# Altium footprint library lib_raspberry.PcbLib: 3 footprints
Each footprint in its own frame and in the unit in brackets; x right, y up, seen from the top. Pads: shape width x height; smd on the part's side, far side on the other; paste and mask are expansions set on the pad; w line width, h text height; cw(c..) or ccw(c..) is an arc to the next point about the centre after c.
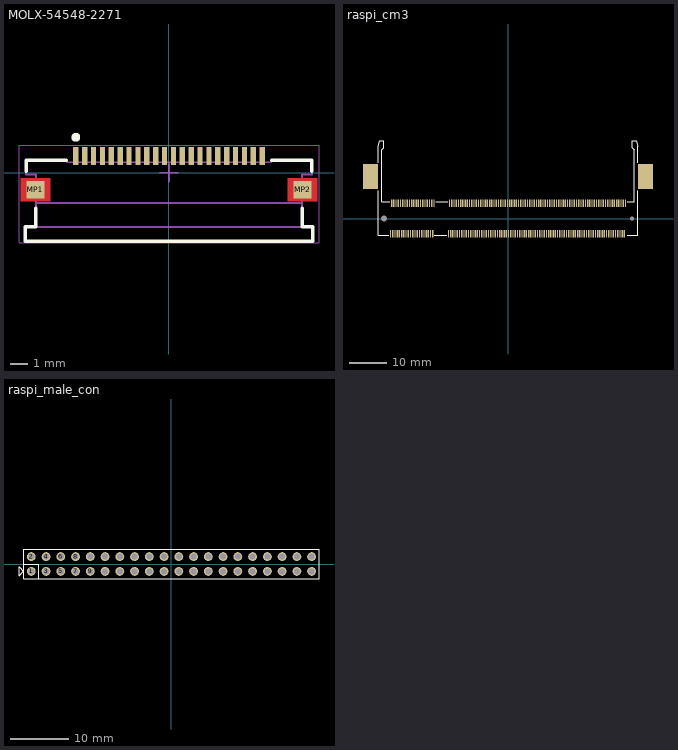
[diagram p0: the footprints below, top view; thin cyan lines are the x and y axes]

## MOLX-54548-2271 [mm] "FPC Connector, 22-Leads, Right Angle, Pitch 0.5 mm, Mated Height 1.2 mm, SMT"
height 1.212
pads (24):
  rect 0.3x1 smd: 1(-5.25,0.95) 2(-4.75,0.95) 3(-4.25,0.95) 4(-3.75,0.95) 5(-3.25,0.95) 6(-2.75,0.95) 7(-2.25,0.95) 8(-1.75,0.95) 9(-1.25,0.95) 10(-0.75,0.95) 11(-0.25,0.95) 12(0.25,0.95) 13(0.75,0.95) 14(1.25,0.95) 15(1.75,0.95) 16(2.25,0.95) 17(2.75,0.95) 18(3.25,0.95) 19(3.75,0.95) 20(4.25,0.95) 21(4.75,0.95) 22(5.25,0.95)
  rect 1x1 smd: MP1(-7.525,-0.95) MP2(7.525,-0.95)
Top Layer:
  region: 8.35,-0.3 6.7,-0.3 6.7,-1.6 8.35,-1.6
  region: -8.35,-0.3 -6.7,-0.3 -6.7,-1.6 -8.35,-1.6
Top Overlay:
  circle w0.25: c-5.25,2 r0.125
  lines w0.2: -8.05,0.1 -8.05,0.7 -5.8,0.7 ; -7.5,-2 -7.5,-3.05 -8.1,-3.05 -8.1,-3.849 8.1,-3.849 8.1,-3.05 7.5,-3.05 7.5,-2 ; 5.8,0.7 8.05,0.7 8.05,0.1
Mechanical 13:
  lines w0.1: -7.5,-1.7 7.5,-1.7 ; -7.5,-3.05 -7.5,-0.1 -8.05,-0.1 -8.05,0.7 -5.75,0.7 -5.75,0.6 5.75,0.6 5.75,0.7 8.05,0.7 8.05,-0.1 7.5,-0.1 7.5,-3.05 ; -7.5,-3.05 -8.1,-3.05 -8.1,-3.849 8.1,-3.849 8.1,-3.05 7.5,-3.05 ; -7.5,-3.05 7.5,-3.05
Mechanical 15:
  lines w0.05: -8.45,-3.949 8.45,-3.949 8.45,1.55 -8.45,1.55 -8.45,-3.949
  lines w0.1: -0.5,0 0.5,0 ; 0,-0.5 0,0.5
3D body "545482271.stp": height 1.21, standoff 0.01, extent -8.1,-3.849 8.1,1.151

## raspi_cm3 [mm]
pads (204):
  rect 0.35x2 smd: 1(-31.65,-4.1) 2(-31.35,4.1) 3(-31.05,-4.1) 4(-30.75,4.1) 5(-30.45,-4.1) 6(-30.15,4.1) 7(-29.85,-4.1) 8(-29.55,4.1) 9(-29.25,-4.1) 10(-28.95,4.1) 11(-28.65,-4.1) 12(-28.35,4.1) 13(-28.05,-4.1) 14(-27.75,4.1) 15(-27.45,-4.1) 16(-27.15,4.1) 17(-26.85,-4.1) 18(-26.55,4.1) 19(-26.25,-4.1) 20(-25.95,4.1) 21(-25.65,-4.1) 22(-25.35,4.1) 23(-25.05,-4.1) 24(-24.75,4.1) 25(-24.45,-4.1) 26(-24.15,4.1) 27(-23.85,-4.1) 28(-23.55,4.1) 29(-23.25,-4.1) 30(-22.95,4.1) 31(-22.65,-4.1) 32(-22.35,4.1) 33(-22.05,-4.1) 34(-21.75,4.1) 35(-21.45,-4.1) 36(-21.15,4.1) 37(-20.85,-4.1) 38(-20.55,4.1) 39(-20.25,-4.1) 40(-19.95,4.1) 41(-16.05,-4.1) 42(-15.75,4.1) 43(-15.45,-4.1) 44(-15.15,4.1) 45(-14.85,-4.1) 46(-14.55,4.1) 47(-14.25,-4.1) 48(-13.95,4.1) 49(-13.65,-4.1) 50(-13.35,4.1) 51(-13.05,-4.1) 52(-12.75,4.1) 53(-12.45,-4.1) 54(-12.15,4.1) 55(-11.85,-4.1) 56(-11.55,4.1) 57(-11.25,-4.1) 58(-10.95,4.1) 59(-10.65,-4.1) 60(-10.35,4.1) 61(-10.05,-4.1) 62(-9.75,4.1) 63(-9.45,-4.1) 64(-9.15,4.1) 65(-8.85,-4.1) 66(-8.55,4.1) 67(-8.25,-4.1) 68(-7.95,4.1) 69(-7.65,-4.1) 70(-7.35,4.1) 71(-7.05,-4.1) 72(-6.75,4.1) 73(-6.45,-4.1) 74(-6.15,4.1) 75(-5.85,-4.1) 76(-5.55,4.1) 77(-5.25,-4.1) 78(-4.95,4.1) 79(-4.65,-4.1) 80(-4.35,4.1) 81(-4.05,-4.1) 82(-3.75,4.1) 83(-3.45,-4.1) 84(-3.15,4.1) 85(-2.85,-4.1) 86(-2.55,4.1) 87(-2.25,-4.1) 88(-1.95,4.1) 89(-1.65,-4.1) 90(-1.35,4.1) 91(-1.05,-4.1) 92(-0.75,4.1) 93(-0.45,-4.1) 94(-0.15,4.1) 95(0.15,-4.1) 96(0.45,4.1) 97(0.75,-4.1) 98(1.05,4.1) 99(1.35,-4.1) 100(1.65,4.1) 101(1.95,-4.1) 102(2.25,4.1) 103(2.55,-4.1) 104(2.85,4.1) 105(3.15,-4.1) 106(3.45,4.1) 107(3.75,-4.1) 108(4.05,4.1) 109(4.35,-4.1) 110(4.65,4.1) 111(4.95,-4.1) 112(5.25,4.1) 113(5.55,-4.1) 114(5.85,4.1) 115(6.15,-4.1) 116(6.45,4.1) 117(6.75,-4.1) 118(7.05,4.1) 119(7.35,-4.1) 120(7.65,4.1) 121(7.95,-4.1) 122(8.25,4.1) 123(8.55,-4.1) 124(8.85,4.1) 125(9.15,-4.1) 126(9.45,4.1) 127(9.75,-4.1) 128(10.05,4.1) 129(10.35,-4.1) 130(10.65,4.1) 131(10.95,-4.1) 132(11.25,4.1) 133(11.55,-4.1) 134(11.85,4.1) 135(12.15,-4.1) 136(12.45,4.1) 137(12.75,-4.1) 138(13.05,4.1) 139(13.35,-4.1) 140(13.65,4.1) 141(13.95,-4.1) 142(14.25,4.1) 143(14.55,-4.1) 144(14.85,4.1) 145(15.15,-4.1) 146(15.45,4.1) 147(15.75,-4.1) 148(16.05,4.1) 149(16.35,-4.1) 150(16.65,4.1) 151(16.95,-4.1) 152(17.25,4.1) 153(17.55,-4.1) 154(17.85,4.1) 155(18.15,-4.1) 156(18.45,4.1) 157(18.75,-4.1) 158(19.05,4.1) 159(19.35,-4.1) 160(19.65,4.1) 161(19.95,-4.1) 162(20.25,4.1) 163(20.55,-4.1) 164(20.85,4.1) 165(21.15,-4.1) 166(21.45,4.1) 167(21.75,-4.1) 168(22.05,4.1) 169(22.35,-4.1) 170(22.65,4.1) 171(22.95,-4.1) 172(23.25,4.1) 173(23.55,-4.1) 174(23.85,4.1) 175(24.15,-4.1) 176(24.45,4.1) 177(24.75,-4.1) 178(25.05,4.1) 179(25.35,-4.1) 180(25.65,4.1) 181(25.95,-4.1) 182(26.25,4.1) 183(26.55,-4.1) 184(26.85,4.1) 185(27.15,-4.1) 186(27.45,4.1) 187(27.75,-4.1) 188(28.05,4.1) 189(28.35,-4.1) 190(28.65,4.1) 191(28.95,-4.1) 192(29.25,4.1) 193(29.55,-4.1) 194(29.85,4.1) 195(30.15,-4.1) 196(30.45,4.1) 197(30.75,-4.1) 198(31.05,4.1) 199(31.35,-4.1) 200(31.65,4.1)
  round 0.8 hole 1.6: MH(-33.4,0)
  round 0.8 hole 1.1: MH(33.4,0)
  rect 4x6.8 smd: SHIELD(-37,11.3) SHIELD(37,11.3)
Top Overlay:
  lines w0.2: -35,7.5 -35,-4.5 -32.1,-4.5 ; -35,15 -35,19.5 -34.5,21 -33.5,21 -33.5,19 -34,18.5 -34,4.5 -31.8,4.5 ; -19.8,-4.5 -16.5,-4.5 ; -19.5,4.5 -16.2,4.5 ; 32.1,-4.5 35,-4.5 35,7.5 ; 32.1,4.5 34,4.5 34,18.5 33.5,19 33.5,21 34.5,21 35,19.5 35,15
3D body "computeModule.stp": height 8.1, standoff 6.6, extent -33.8,0 33.8,30
3D body "c-1612618-4-e2-3d.stp": height 9.48, standoff -0.65, extent -37.95,-4.95 37.95,21.606

## raspi_male_con [mil]
pads (40):
  round 60 hole 40: 1(-950,-50) 2(-950,50) 3(-850,-50) 4(-850,50) 5(-750,-50) 6(-750,50) 7(-650,-50) 8(-650,50) 9(-550,-50) 10(-550,50) 11(-450,-50) 12(-450,50) 13(-350,-50) 14(-350,50) 15(-250,-50) 16(-250,50) 17(-150,-50) 18(-150,50) 19(-50,-50) 20(-50,50) 21(50,-50) 22(50,50) 23(150,-50) 24(150,50) 25(250,-50) 26(250,50) 27(350,-50) 28(350,50) 29(450,-50) 30(450,50) 31(550,-50) 32(550,50) 33(650,-50) 34(650,50) 35(750,-50) 36(750,50) 37(850,-50) 38(850,50) 39(950,-50) 40(950,50)
Top Overlay:
  lines w7.87: -900,-100 -900,0 -1000,0 -1000,-100 ; -1000,-100 -1000,100 1000,100 1000,-100 -1000,-100 ; -1033.46,-78.74 -1033.46,-19.68 -1003.94,-49.21 -1033.46,-78.74
3D body "TSW-120-07-G-D.stp": height 330, standoff -100, extent -999.99,-99.99 1000.01,100.01